# Altium footprint library FTDI module.PcbLib: 1 footprints
Each footprint in its own frame and in the unit in brackets; x right, y up, seen from the top. Pads: shape width x height; smd on the part's side, far side on the other; paste and mask are expansions set on the pad; w line width, h text height; cw(c..) or ccw(c..) is an arc to the next point about the centre after c.
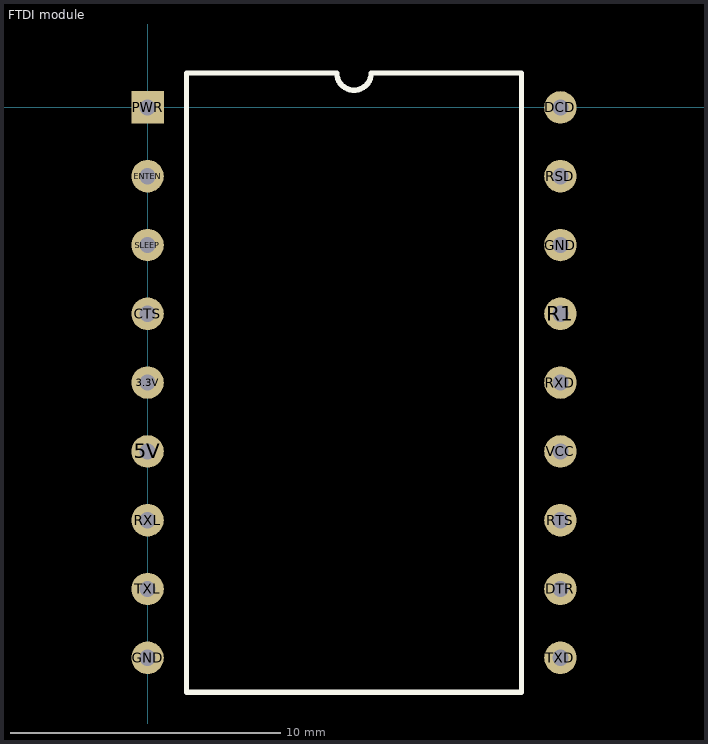
[diagram p0: the footprint, top view; thin cyan lines are the x and y axes]

## FTDI module [mm]
pads (18):
  round 1.2 hole 0.6: 3.3V(0,-10.16) 5V(0,-12.7) CTS(0,-7.62) DCD(15.24,0) DTR(15.24,-17.78) ENTEN(0,-2.54) GND(0,-20.32) GND(15.24,-5.08) R1(15.24,-7.62) RSD(15.24,-2.54) RTS(15.24,-15.24) RXD(15.24,-10.16) RXL(0,-15.24) SLEEP(0,-5.08) TXD(15.24,-20.32) TXL(0,-17.78) VCC(15.24,-12.7)
  rect 1.2x1.2 hole 0.6: PWR(0,0)
Top Overlay:
  lines w0.2: 1.435,-21.59 1.435,1.27 6.985,1.27 ccw(c7.62,1.27) 8.255,1.27 13.805,1.27 13.805,-21.59 1.435,-21.59
3D body "FTDI Sparkfun.STEP": height 4.77, standoff -3.19, extent -1.36,-22.497 16.51,1.923